# EAGLE library part PSCQ-2-10.5 (library ic)
PSCQ-2-10.5 90° power splitter/combiner 9-11MHz (Mini-Circuits) 3° phase unbalance, 20dB isolation
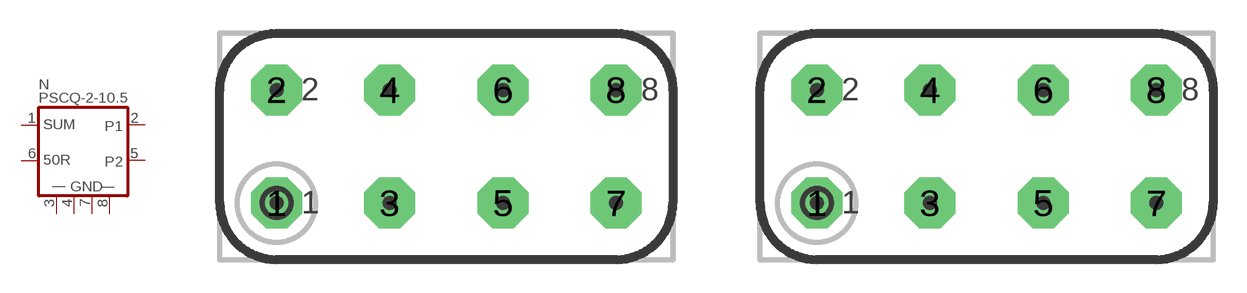
[diagram p41: symbol with the pads of MC-A01N; footprints MC-A01N, MC-A01G]

Designator prefix N

## PSCQ-2-10.5  [MC-A01N]
1  SUM
2  P1
3  GND  pwr
4  GND  pwr
5  P2
6  50R  pas
7  GND  pwr
8  GND  pwr

## PSCQ-2-10.5G  [MC-A01G]
Pads as for MC-A01N

## Footprint MC-A01N (pad centres in mm)
Mini-Circuits A01 Metal case (20*10mm), 8 pins, Broken top plane
drill 0.991 pad 2.286 octagon: 1 -7.62,-2.54; 2 -7.62,2.54; 3 -2.54,-2.54; 4 -2.54,2.54; 5 2.54,-2.54; 6 2.54,2.54; 7 7.62,-2.54; 8 7.62,2.54

## Footprint MC-A01G (pad centres in mm)
Mini-Circuits A01 Metal case (20*10mm), 8 pins
drill 0.991 pad 2.286 octagon: 1 -7.62,-2.54; 2 -7.62,2.54; 3 -2.54,-2.54; 4 -2.54,2.54; 5 2.54,-2.54; 6 2.54,2.54; 7 7.62,-2.54; 8 7.62,2.54